# Altium footprint library RT9193 .PcbLib: 15 footprints
Each footprint in its own frame and in the unit in brackets; x right, y up, seen from the top. Pads: shape width x height; smd on the part's side, far side on the other; paste and mask are expansions set on the pad; w line width, h text height; cw(c..) or ccw(c..) is an arc to the next point about the centre after c.
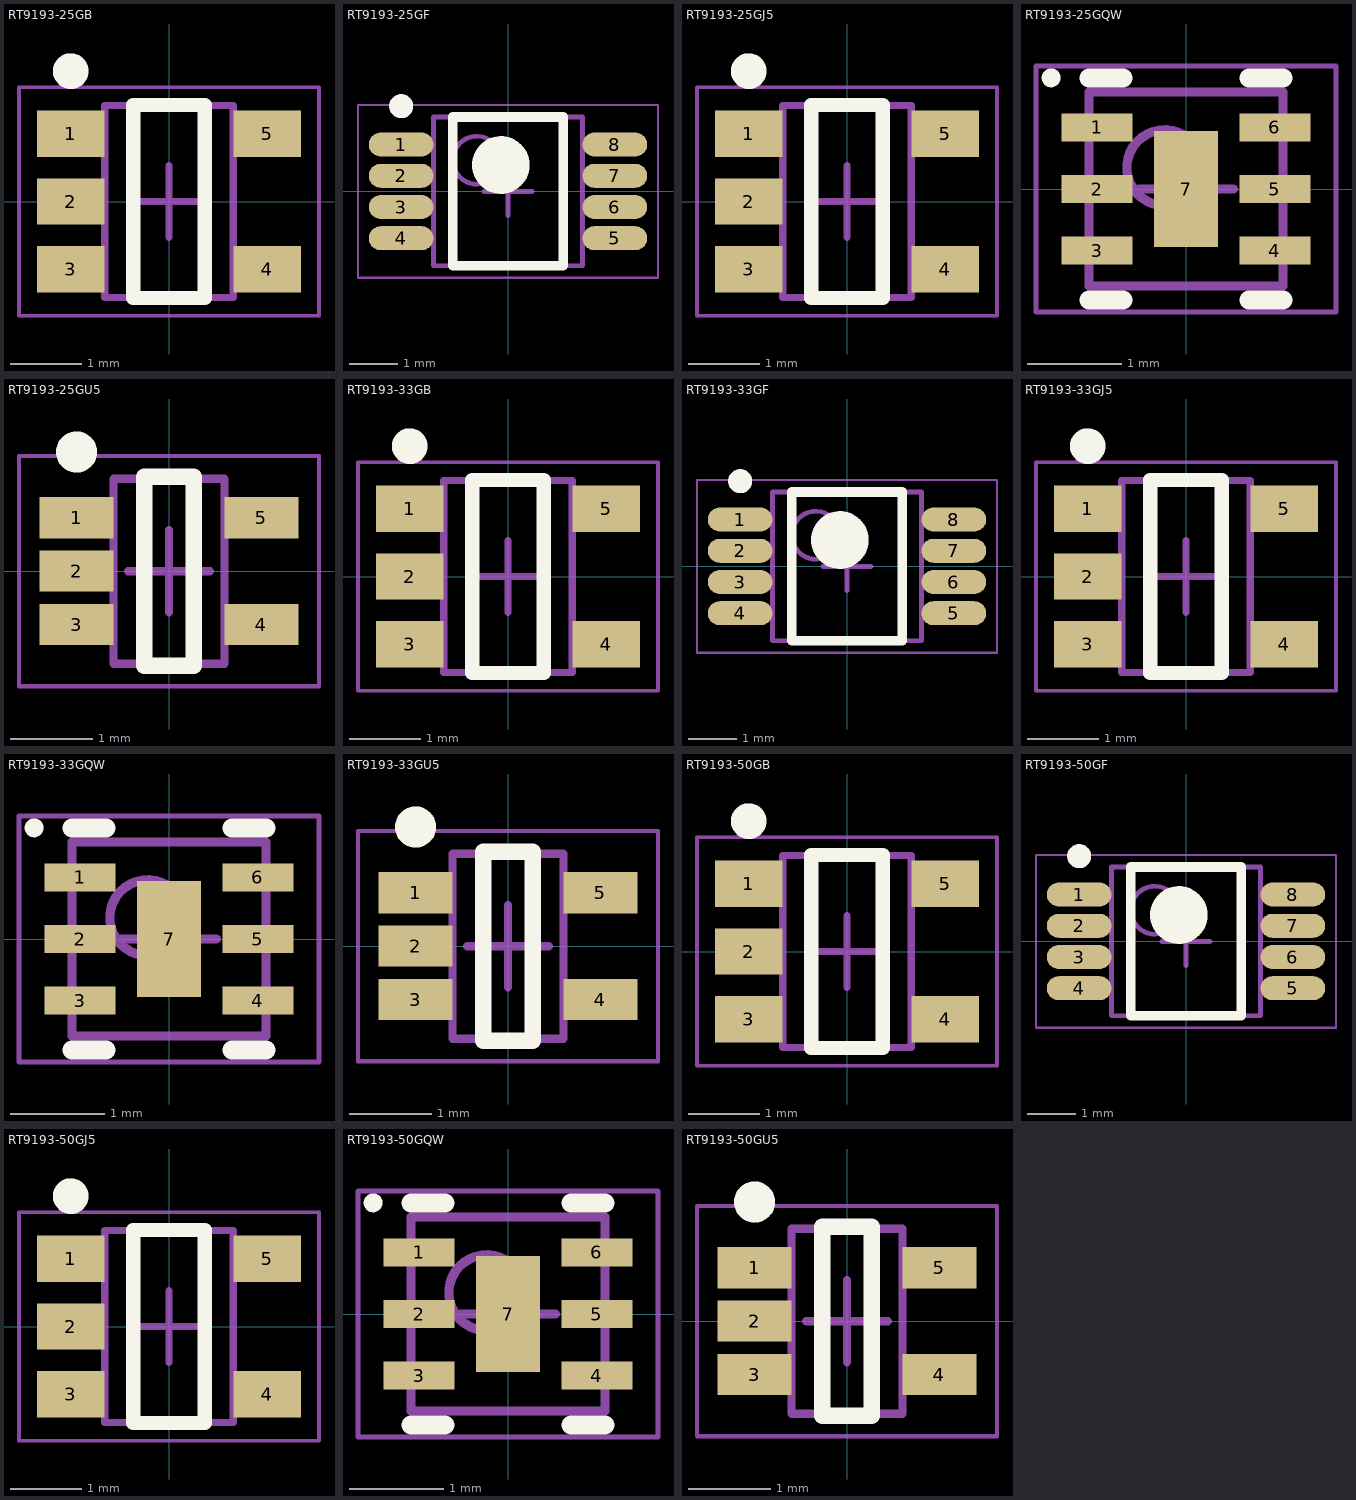
[diagram p0: the footprints below, top view; thin cyan lines are the x and y axes]

## RT9193-25GB [mm] "SOT23, 5-Leads, Body 2.90x2.79mm, Pitch 0.95mm, IPC Medium Density"
height 1.3
pads (5):
  rect 0.95x0.65 smd: 1(-1.375,0.95) 2(-1.375,0) 3(-1.375,-0.95) 4(1.375,-0.95) 5(1.375,0.95)
Top Overlay:
  circle w0.25: c-1.375,1.825 r0.125
  lines w0.2: -0.5,-1.35 0.5,-1.35 0.5,1.35 -0.5,1.35 -0.5,-1.35
Mechanical 13:
  lines w0.1: -0.9,-1.345 -0.9,1.345 0.9,1.345 0.9,-1.345 -0.9,-1.345
Mechanical 15:
  lines w0.05: -2.1,-1.6 -2.1,1.6 2.1,1.6 2.1,-1.6 -2.1,-1.6
  lines w0.1: -0.5,0 0.5,0 ; 0,-0.5 0,0.5
3D body "SOT95P279X130-5N.step": height 1.3, standoff 0, extent -1.499,-1.345 1.499,1.345

## RT9193-25GF [mm] "TSOP, 8-Leads, Body 3.00x3.00mm, Pitch 0.65mm, IPC Medium Density"
height 1.1
pads (8):
  oval 1.35x0.5 smd: 1(-2.225,0.975) 2(-2.225,0.325) 3(-2.225,-0.325) 4(-2.225,-0.975) 5(2.225,-0.975) 6(2.225,-0.325) 7(2.225,0.325) 8(2.225,0.975)
Top Overlay:
  circle w0.6: c-0.15,0.55 r0.3
  circle w0.25: c-2.225,1.775 r0.125
  lines w0.2: -1.15,-1.55 1.15,-1.55 1.15,1.55 -1.15,1.55 -1.15,-1.55
Mechanical 13:
  circle w0.1: c-0.65,0.65 r0.5
  lines w0.1: -1.55,-1.55 1.55,-1.55 1.55,1.55 -1.55,1.55 -1.55,-1.55
Mechanical 15:
  lines w0.05: -3.125,-1.8 3.125,-1.8 3.125,1.8 -3.125,1.8 -3.125,-1.8
  lines w0.1: -0.5,0 0.5,0 ; 0,-0.5 0,0.5
3D body "TSOP65P490X110-8N.step": height 1.1, standoff 0, extent -2.45,-1.55 2.45,1.55

## RT9193-25GJ5 [mm] "SOT23, 5-Leads, Body 2.90x2.80mm, Pitch 0.95mm, IPC Medium Density"
height 1
pads (5):
  rect 0.95x0.65 smd: 1(-1.375,0.95) 2(-1.375,0) 3(-1.375,-0.95) 4(1.375,-0.95) 5(1.375,0.95)
Top Overlay:
  circle w0.25: c-1.375,1.825 r0.125
  lines w0.2: -0.5,-1.35 -0.5,1.35 0.5,1.35 0.5,-1.35 -0.5,-1.35
Mechanical 13:
  lines w0.1: -0.9,-1.345 0.9,-1.345 0.9,1.345 -0.9,1.345 -0.9,-1.345
Mechanical 15:
  lines w0.05: -2.1,-1.6 2.1,-1.6 2.1,1.6 -2.1,1.6 -2.1,-1.6
  lines w0.1: -0.5,0 0.5,0 ; 0,-0.5 0,0.5
3D body "SOT95P280X100-5N.step": height 1, standoff 0, extent -1.5,-1.345 1.5,1.345

## RT9193-25GQW [mm] "SON, 6-Leads, Body 2.00x2.00mm, Pitch 0.65mm, Thermal Pad 1.23x0.68mm, IPC Medium Density"
height 0.8
pads (7):
  rect 0.75x0.3 smd: 1(-0.94,0.65) 2(-0.94,0) 3(-0.94,-0.65) 4(0.94,-0.65) 5(0.94,0) 6(0.94,0.65)
  rect 0.68x1.23 smd: 7(0,0)
Top Overlay:
  circle w0.1: c-1.425,1.175 r0.05
  lines w0.2: -1.025,-1.175 -0.665,-1.175 ; -1.025,1.175 -0.665,1.175 ; 0.665,-1.175 1.025,-1.175 ; 0.665,1.175 1.025,1.175
Mechanical 13:
  circle w0.1: c-0.225,0.225 r0.4
  lines w0.1: -1.025,-1.025 -1.025,1.025 1.025,1.025 1.025,-1.025 -1.025,-1.025
Mechanical 15:
  lines w0.05: -1.585,-1.3 -1.585,1.3 1.585,1.3 1.585,-1.3 -1.585,-1.3
  lines w0.1: -0.5,0 0.5,0 ; 0,-0.5 0,0.5
3D body: height 0.8, standoff 0, extent -1.025,-1.025 1.025,1.025

## RT9193-25GU5 [mm] "SOT23, 5-Leads, Body 2.03x2.13mm, Pitch 0.65mm, IPC Medium Density"
height 1.1
pads (5):
  rect 0.9x0.5 smd: 1(-1.125,0.65) 2(-1.125,0) 3(-1.125,-0.65) 4(1.125,-0.65) 5(1.125,0.65)
Top Overlay:
  circle w0.25: c-1.125,1.45 r0.125
  lines w0.2: -0.3,-1.15 0.3,-1.15 0.3,1.15 -0.3,1.15 -0.3,-1.15
Mechanical 13:
  lines w0.1: -0.675,-1.125 -0.675,1.125 0.675,1.125 0.675,-1.125 -0.675,-1.125
Mechanical 15:
  lines w0.05: -1.825,-1.4 -1.825,1.4 1.825,1.4 1.825,-1.4 -1.825,-1.4
  lines w0.1: -0.5,0 0.5,0 ; 0,-0.5 0,0.5
3D body "SOT65P212X110-5N.step": height 1.1, standoff 0, extent -1.225,-1.125 1.225,1.125

## RT9193-33GB [mm] "SOT23, 5-Leads, Body 2.90x2.79mm, Pitch 0.95mm, IPC Medium Density"
height 1.3
pads (5):
  rect 0.95x0.65 smd: 1(-1.375,0.95) 2(-1.375,0) 3(-1.375,-0.95) 4(1.375,-0.95) 5(1.375,0.95)
Top Overlay:
  circle w0.25: c-1.375,1.825 r0.125
  lines w0.2: -0.5,-1.35 -0.5,1.35 0.5,1.35 0.5,-1.35 -0.5,-1.35
Mechanical 13:
  lines w0.1: -0.9,-1.345 0.9,-1.345 0.9,1.345 -0.9,1.345 -0.9,-1.345
Mechanical 15:
  lines w0.05: -2.1,-1.6 2.1,-1.6 2.1,1.6 -2.1,1.6 -2.1,-1.6
  lines w0.1: -0.5,0 0.5,0 ; 0,-0.5 0,0.5
3D body "SOT95P279X130-5N.step": height 1.3, standoff 0, extent -1.499,-1.345 1.499,1.345

## RT9193-33GF [mm] "TSOP, 8-Leads, Body 3.00x3.00mm, Pitch 0.65mm, IPC Medium Density"
height 1.1
pads (8):
  oval 1.35x0.5 smd: 1(-2.225,0.975) 2(-2.225,0.325) 3(-2.225,-0.325) 4(-2.225,-0.975) 5(2.225,-0.975) 6(2.225,-0.325) 7(2.225,0.325) 8(2.225,0.975)
Top Overlay:
  circle w0.6: c-0.15,0.55 r0.3
  circle w0.25: c-2.225,1.775 r0.125
  lines w0.2: -1.15,-1.55 1.15,-1.55 1.15,1.55 -1.15,1.55 -1.15,-1.55
Mechanical 13:
  circle w0.1: c-0.65,0.65 r0.5
  lines w0.1: -1.55,-1.55 1.55,-1.55 1.55,1.55 -1.55,1.55 -1.55,-1.55
Mechanical 15:
  lines w0.05: -3.125,-1.8 3.125,-1.8 3.125,1.8 -3.125,1.8 -3.125,-1.8
  lines w0.1: -0.5,0 0.5,0 ; 0,-0.5 0,0.5
3D body "TSOP65P490X110-8N.step": height 1.1, standoff 0, extent -2.45,-1.55 2.45,1.55

## RT9193-33GJ5 [mm] "SOT23, 5-Leads, Body 2.90x2.80mm, Pitch 0.95mm, IPC Medium Density"
height 1
pads (5):
  rect 0.95x0.65 smd: 1(-1.375,0.95) 2(-1.375,0) 3(-1.375,-0.95) 4(1.375,-0.95) 5(1.375,0.95)
Top Overlay:
  circle w0.25: c-1.375,1.825 r0.125
  lines w0.2: -0.5,-1.35 0.5,-1.35 0.5,1.35 -0.5,1.35 -0.5,-1.35
Mechanical 13:
  lines w0.1: -0.9,-1.345 -0.9,1.345 0.9,1.345 0.9,-1.345 -0.9,-1.345
Mechanical 15:
  lines w0.05: -2.1,-1.6 -2.1,1.6 2.1,1.6 2.1,-1.6 -2.1,-1.6
  lines w0.1: -0.5,0 0.5,0 ; 0,-0.5 0,0.5
3D body "SOT95P280X100-5N.step": height 1, standoff 0, extent -1.5,-1.345 1.5,1.345

## RT9193-33GQW [mm] "SON, 6-Leads, Body 2.00x2.00mm, Pitch 0.65mm, Thermal Pad 1.23x0.68mm, IPC Medium Density"
height 0.8
pads (7):
  rect 0.75x0.3 smd: 1(-0.94,0.65) 2(-0.94,0) 3(-0.94,-0.65) 4(0.94,-0.65) 5(0.94,0) 6(0.94,0.65)
  rect 0.68x1.23 smd: 7(0,0)
Top Overlay:
  circle w0.1: c-1.425,1.175 r0.05
  lines w0.2: -1.025,-1.175 -0.665,-1.175 ; -1.025,1.175 -0.665,1.175 ; 0.665,-1.175 1.025,-1.175 ; 0.665,1.175 1.025,1.175
Mechanical 13:
  circle w0.1: c-0.225,0.225 r0.4
  lines w0.1: -1.025,-1.025 -1.025,1.025 1.025,1.025 1.025,-1.025 -1.025,-1.025
Mechanical 15:
  lines w0.05: -1.585,-1.3 -1.585,1.3 1.585,1.3 1.585,-1.3 -1.585,-1.3
  lines w0.1: -0.5,0 0.5,0 ; 0,-0.5 0,0.5
3D body: height 0.8, standoff 0, extent -1.025,-1.025 1.025,1.025

## RT9193-33GU5 [mm] "SOT23, 5-Leads, Body 2.03x2.13mm, Pitch 0.65mm, IPC Medium Density"
height 1.1
pads (5):
  rect 0.9x0.5 smd: 1(-1.125,0.65) 2(-1.125,0) 3(-1.125,-0.65) 4(1.125,-0.65) 5(1.125,0.65)
Top Overlay:
  circle w0.25: c-1.125,1.45 r0.125
  lines w0.2: -0.3,-1.15 -0.3,1.15 0.3,1.15 0.3,-1.15 -0.3,-1.15
Mechanical 13:
  lines w0.1: -0.675,-1.125 0.675,-1.125 0.675,1.125 -0.675,1.125 -0.675,-1.125
Mechanical 15:
  lines w0.05: -1.825,-1.4 1.825,-1.4 1.825,1.4 -1.825,1.4 -1.825,-1.4
  lines w0.1: -0.5,0 0.5,0 ; 0,-0.5 0,0.5
3D body "SOT65P212X110-5N.step": height 1.1, standoff 0, extent -1.225,-1.125 1.225,1.125

## RT9193-50GB [mm] "SOT23, 5-Leads, Body 2.90x2.79mm, Pitch 0.95mm, IPC Medium Density"
height 1.3
pads (5):
  rect 0.95x0.65 smd: 1(-1.375,0.95) 2(-1.375,0) 3(-1.375,-0.95) 4(1.375,-0.95) 5(1.375,0.95)
Top Overlay:
  circle w0.25: c-1.375,1.825 r0.125
  lines w0.2: -0.5,-1.35 0.5,-1.35 0.5,1.35 -0.5,1.35 -0.5,-1.35
Mechanical 13:
  lines w0.1: -0.9,-1.345 -0.9,1.345 0.9,1.345 0.9,-1.345 -0.9,-1.345
Mechanical 15:
  lines w0.05: -2.1,-1.6 -2.1,1.6 2.1,1.6 2.1,-1.6 -2.1,-1.6
  lines w0.1: -0.5,0 0.5,0 ; 0,-0.5 0,0.5
3D body "SOT95P279X130-5N.step": height 1.3, standoff 0, extent -1.499,-1.345 1.499,1.345

## RT9193-50GF [mm] "TSOP, 8-Leads, Body 3.00x3.00mm, Pitch 0.65mm, IPC Medium Density"
height 1.1
pads (8):
  oval 1.35x0.5 smd: 1(-2.225,0.975) 2(-2.225,0.325) 3(-2.225,-0.325) 4(-2.225,-0.975) 5(2.225,-0.975) 6(2.225,-0.325) 7(2.225,0.325) 8(2.225,0.975)
Top Overlay:
  circle w0.6: c-0.15,0.55 r0.3
  circle w0.25: c-2.225,1.775 r0.125
  lines w0.2: -1.15,-1.55 1.15,-1.55 1.15,1.55 -1.15,1.55 -1.15,-1.55
Mechanical 13:
  circle w0.1: c-0.65,0.65 r0.5
  lines w0.1: -1.55,-1.55 1.55,-1.55 1.55,1.55 -1.55,1.55 -1.55,-1.55
Mechanical 15:
  lines w0.05: -3.125,-1.8 3.125,-1.8 3.125,1.8 -3.125,1.8 -3.125,-1.8
  lines w0.1: -0.5,0 0.5,0 ; 0,-0.5 0,0.5
3D body "TSOP65P490X110-8N.step": height 1.1, standoff 0, extent -2.45,-1.55 2.45,1.55

## RT9193-50GJ5 [mm] "SOT23, 5-Leads, Body 2.90x2.80mm, Pitch 0.95mm, IPC Medium Density"
height 1
pads (5):
  rect 0.95x0.65 smd: 1(-1.375,0.95) 2(-1.375,0) 3(-1.375,-0.95) 4(1.375,-0.95) 5(1.375,0.95)
Top Overlay:
  circle w0.25: c-1.375,1.825 r0.125
  lines w0.2: -0.5,-1.35 -0.5,1.35 0.5,1.35 0.5,-1.35 -0.5,-1.35
Mechanical 13:
  lines w0.1: -0.9,-1.345 0.9,-1.345 0.9,1.345 -0.9,1.345 -0.9,-1.345
Mechanical 15:
  lines w0.05: -2.1,-1.6 2.1,-1.6 2.1,1.6 -2.1,1.6 -2.1,-1.6
  lines w0.1: -0.5,0 0.5,0 ; 0,-0.5 0,0.5
3D body "SOT95P280X100-5N.step": height 1, standoff 0, extent -1.5,-1.345 1.5,1.345

## RT9193-50GQW [mm] "SON, 6-Leads, Body 2.00x2.00mm, Pitch 0.65mm, Thermal Pad 1.23x0.68mm, IPC Medium Density"
height 0.8
pads (7):
  rect 0.75x0.3 smd: 1(-0.94,0.65) 2(-0.94,0) 3(-0.94,-0.65) 4(0.94,-0.65) 5(0.94,0) 6(0.94,0.65)
  rect 0.68x1.23 smd: 7(0,0)
Top Overlay:
  circle w0.1: c-1.425,1.175 r0.05
  lines w0.2: -1.025,-1.175 -0.665,-1.175 ; -1.025,1.175 -0.665,1.175 ; 0.665,-1.175 1.025,-1.175 ; 0.665,1.175 1.025,1.175
Mechanical 13:
  circle w0.1: c-0.225,0.225 r0.4
  lines w0.1: -1.025,-1.025 1.025,-1.025 1.025,1.025 -1.025,1.025 -1.025,-1.025
Mechanical 15:
  lines w0.05: -1.585,-1.3 1.585,-1.3 1.585,1.3 -1.585,1.3 -1.585,-1.3
  lines w0.1: -0.5,0 0.5,0 ; 0,-0.5 0,0.5
3D body: height 0.8, standoff 0, extent -1.025,-1.025 1.025,1.025

## RT9193-50GU5 [mm] "SOT23, 5-Leads, Body 2.03x2.13mm, Pitch 0.65mm, IPC Medium Density"
height 1.1
pads (5):
  rect 0.9x0.5 smd: 1(-1.125,0.65) 2(-1.125,0) 3(-1.125,-0.65) 4(1.125,-0.65) 5(1.125,0.65)
Top Overlay:
  circle w0.25: c-1.125,1.45 r0.125
  lines w0.2: -0.3,-1.15 0.3,-1.15 0.3,1.15 -0.3,1.15 -0.3,-1.15
Mechanical 13:
  lines w0.1: -0.675,-1.125 -0.675,1.125 0.675,1.125 0.675,-1.125 -0.675,-1.125
Mechanical 15:
  lines w0.05: -1.825,-1.4 -1.825,1.4 1.825,1.4 1.825,-1.4 -1.825,-1.4
  lines w0.1: -0.5,0 0.5,0 ; 0,-0.5 0,0.5
3D body "SOT65P212X110-5N.step": height 1.1, standoff 0, extent -1.225,-1.125 1.225,1.125